# EAGLE library part SWITCH_COPAL_SS-10-15XX (library 1A-meinLib)
Rotary selector switch, SS-10-15SP, 1-polig, 5 Schalter, COPA LELECTRONICS
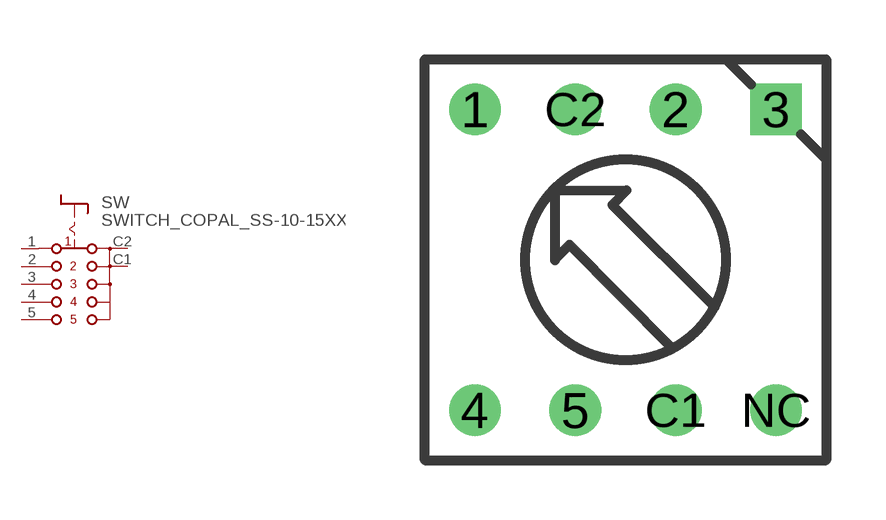
[diagram p329: symbol with the pads of SWITCH_COPAL_SS-10-15; footprint SWITCH_COPAL_SS-10-15]

Designator prefix SW

## SWITCH_COPAL_SS-10-15XX  [SWITCH_COPAL_SS-10-15]
1  1  pas
2  2  pas
3  3  pas
4  4  pas
5  5  pas
C1  COM1  pas
C2  COM2  pas

## Footprint SWITCH_COPAL_SS-10-15 (pad centres in mm)
Rotary selector switch, SS-10-15SP, 1-polig, 5 Schalter, COPA LELECTRONICS
drill 0.8 round: 1 0,7.62; 2 5.08,7.62; 4 0,0; 5 2.54,0; C1 5.08,0; C2 2.54,7.62; NC 7.62,0
drill 0.8 square: 3 7.62,7.62